# Altium schematic symbol library C-Capacitor.SCHLIB: 81 symbols
Pins are listed as number, name and electrical type; pins without a type are passive.

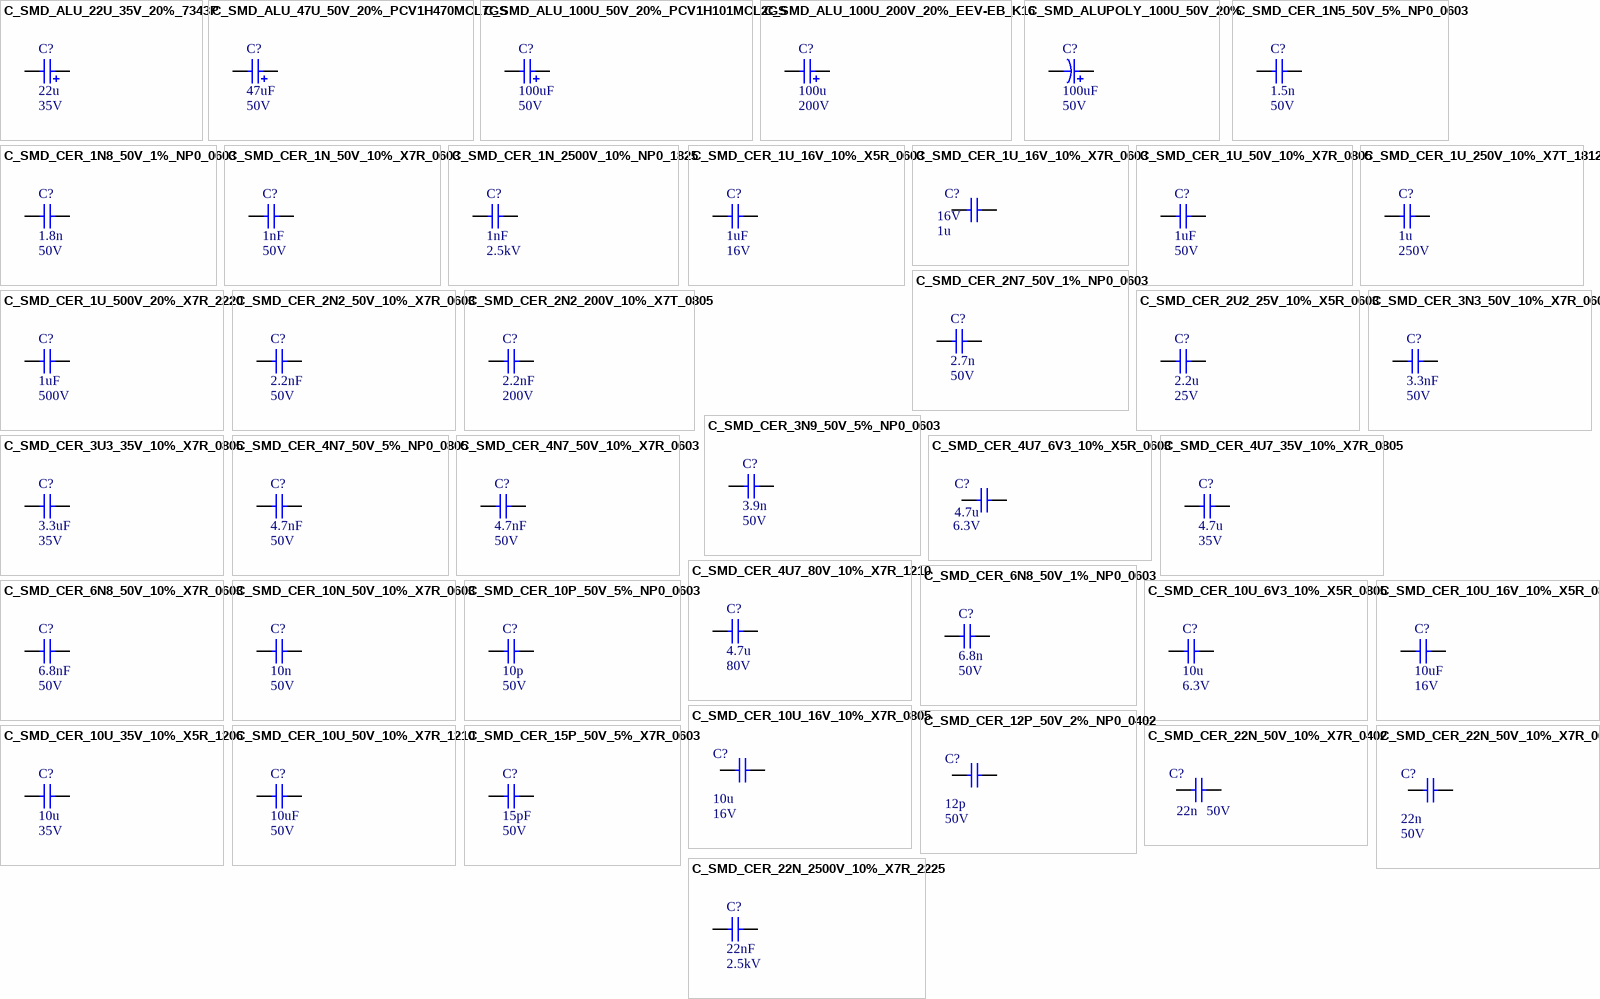
[diagram p0: symbols C_SMD_ALU_22U_35V_20%_7343P to C_SMD_CER_22N_2500V_10%_X7R_2225]

## C_SMD_ALU_22U_35V_20%_7343P
designator C?  value 22u  Value2: 35V  (hidden comment: C_SMD_ALU_22U_35V_20%_7343P)
SMD Aluminium capacitor; Supplier - E+H-flowtec SAP: 50093821
footprint SMD_7343P
pins: 1, 2

## C_SMD_ALU_47U_50V_20%_PCV1H470MCL7GS
designator C?  value 47uF  Value2: 50V  (hidden comment: C_SMD_ALU_47U_50V_20%_PCV1H470MCL7GS)
Supplier - Digikey: 493-4554-1-ND
footprint SMD_CAP_CV_8x10L
pins: 1, 2

## C_SMD_ALU_100U_50V_20%_PCV1H101MCL2GS
designator C?  value 100uF  Value2: 50V  (hidden comment: C_SMD_ALU_100U_50V_20%_PCV1H101MCL2GS)
Supplier - Digikey: 493-4558-1-ND
footprint SMD_CAP_CV_10x12.7L
pins: 1, 2

## C_SMD_ALU_100U_200V_20%_EEV-EB_K16
designator C?  value 100u  Value2: 200V  (hidden comment: C_SMD_ALU_100U_200V_20%_EEV-EB_K16)
SMD Aluminium capacitor; Supplier - Digikey: PCE3582CT-ND
footprint SMD_EEV-EB_K16 (Radial, Can - SMD - EEV-EB Series, Type V, Size code K16)
pins: 1, 2

## C_SMD_ALUPOLY_100U_50V_20%
designator C?  value 100uF  Value2: 50V  (hidden comment: C_SMD_ALUPOLY_100U_50V_20%)
SMD Aluminum Polymer capacitor; Supplier - Digikey: 493-4558-1-ND
footprint SMD_PCV1H101MCL2GS
pins: 1, 2

## C_SMD_CER_1N5_50V_5%_NP0_0603
designator C?  value 1.5n  Value2: 50V
SMD Capacitor; Supplier - E+H Flowtec AG: 71141054
footprint SMD_0603
pins: 1, 2

## C_SMD_CER_1N8_50V_1%_NP0_0603
designator C?  value 1.8n  Value2: 50V
SMD Capacitor; Supplier - Digikey: 490-12714-1-ND
footprint SMD_0603
pins: 1, 2

## C_SMD_CER_1N_50V_10%_X7R_0603
designator C?  value 1nF  Value2: 50V  (hidden comment: C_SMD_CER_1N_50V_10%_X7R_0603)
SMD Capacitor ceramic; Supplier - E+H-flowtec SAP: 50092739
footprint SMD_0603
pins: 1, 2

## C_SMD_CER_1N_2500V_10%_NP0_1825
designator C?  value 1nF  Value2: 2.5kV  (hidden comment: C_SMD_CER_1N_2500V_10%_NP0_1825)
High voltage SMD Capacitor; Suppler - Digikey: 478-4738-1-ND
footprint SMD_1825
pins: 1, 2

## C_SMD_CER_1U_16V_10%_X5R_0603
designator C?  value 1uF  Value2: 16V  (hidden comment: C_SMD_CER_1U_16V_10%_X5R_0603)
SMD Capacitor; Supplier - E+H-flowtec SAP: 50106956
footprint SMD_0603
pins: 1, 2

## C_SMD_CER_1U_16V_10%_X7R_0603
designator C?  value 1u  Value2: 16V  (hidden comment: *)
1µF ±10% 16V Ceramic Capacitor X7R 0603 (1608 Metric); Supplier - Digikey: 1276-1019-1-ND
footprint SMD_CAP_0603
pins: 1, 2

## C_SMD_CER_1U_50V_10%_X7R_0805
designator C?  value 1uF  Value2: 50V  (hidden comment: C_SMD_CER_1U_50V_10%_X7R_0805)
Supplier - Digikey: 587-2910-1-ND
footprint SMD_0805
pins: 1, 2

## C_SMD_CER_1U_250V_10%_X7T_1812
designator C?  value 1u  Value2: 250V  (hidden comment: C_SMD_CER_1U_250V_10%_X7T_1812)
SMD Capacitor; Supplier - Digikey: 445-7925-1-ND
footprint SMD_1812
pins: 1, 2

## C_SMD_CER_1U_500V_20%_X7R_2220
designator C?  value 1uF  Value2: 500V  (hidden comment: C_SMD_CER_1U_500V_20%_X7R_2220)
Supplier - Digikey: 399-9630-1-ND
footprint SMD_2220
pins: 1, 2

## C_SMD_CER_2N2_50V_10%_X7R_0603
designator C?  value 2.2nF  Value2: 50V  (hidden comment: C_SMD_CER_2N2_50V_10%_X7R_0603)
SMD Capacitor; Supplier - E+H Flowtec AG: 50092740
footprint SMD_0603
pins: 1, 2

## C_SMD_CER_2N2_200V_10%_X7T_0805
designator C?  value 2.2nF  Value2: 200V  (hidden comment: C_SMD_CER_2N2_200V_10%_X7T_0805)
SMD Capacitor
footprint SMD_0805
pins: 1, 2

## C_SMD_CER_2N7_50V_1%_NP0_0603
designator C?  value 2.7n  Value2: 50V
Supplier - Digikey: 490-11543-1-ND
footprint SMD_0603
pins: 1, 2

## C_SMD_CER_2U2_25V_10%_X5R_0603
designator C?  value 2.2u  Value2: 25V  (hidden comment: C_SMD_CER_2U2_25V_10%_X5R_0603)
SMD Capacitor; Supplier - Digikey: 587-2909-1-ND
footprint SMD_0603
pins: 1, 2

## C_SMD_CER_3N3_50V_10%_X7R_0603
designator C?  value 3.3nF  Value2: 50V  (hidden comment: C_SMD_CER_3N3_50V_10%_X7R_0603)
Thinfilm Ceramic Capacitor; Supplier - Digikey: 490-1503-1-ND
footprint SMD_0603
pins: 1, 2

## C_SMD_CER_3N9_50V_5%_NP0_0603
designator C?  value 3.9n  Value2: 50V
SMD Capacitor; Supplier - E+H Flowtec AG: 71254851
footprint SMD_0603
pins: 1, 2

## C_SMD_CER_3U3_35V_10%_X7R_0805
designator C?  value 3.3uF  Value2: 35V  (hidden comment: C_SMD_CER_3U3_35V_10%_X7R_0805)
Supplier - Digikey: 445-7553-1-ND
footprint SMD_0805
pins: 1, 2

## C_SMD_CER_4N7_50V_5%_NP0_0805
designator C?  value 4.7nF  Value2: 50V  (hidden comment: C_SMD_CER_4N7_50V_5%_NP0_0805)
SMD Capacitor ceramic; Supplier - E+H-flowtec SAP: 71137653
footprint SMD_0805
pins: 1, 2

## C_SMD_CER_4N7_50V_10%_X7R_0603
designator C?  value 4.7nF  Value2: 50V  (hidden comment: C_SMD_CER_4N7_50V_10%_X7R_0603)
SMD Capacitor ceramic; Supplier - E+H-flowtec SAP: 50092742; Supplier - Digikey: 478-1223-1-ND
footprint SMD_0603
pins: 1, 2

## C_SMD_CER_4U7_6V3_10%_X5R_0603
designator C?  value 4.7u  Value2: 6.3V  (hidden comment: *)
Supplier - Digikey: 1276-1045-1-ND
footprint SMD_CAP_0603
pins: 1, 2

## C_SMD_CER_4U7_35V_10%_X7R_0805
designator C?  value 4.7u  Value2: 35V  (hidden comment: C_SMD_CER_4U7_35V_10%_X7R_0805)
SMD Capacitor, Ceramic; Supplier - Digikey: 445-172479-1-ND
footprint SMD_0805
pins: 1, 2

## C_SMD_CER_4U7_80V_10%_X7R_1210
designator C?  value 4.7u  Value2: 80V  (hidden comment: C_SMD_CER_4U7_80V_10%_X7R_1210)
SMD Capacitor, Ceramic; Supplier - Digikey: 490-9972-1-ND
footprint SMD_1210
pins: 1, 2

## C_SMD_CER_6N8_50V_1%_NP0_0603
designator C?  value 6.8n  Value2: 50V
Supplier - Digikey: 490-10742-1-ND
footprint SMD_0603
pins: 1, 2

## C_SMD_CER_6N8_50V_10%_X7R_0603
designator C?  value 6.8nF  Value2: 50V  (hidden comment: C_SMD_CER_6N8_50V_10%_X7R_0603)
Supplier - Digikey: 1276-1185-1-ND
footprint SMD_0603
pins: 1, 2

## C_SMD_CER_10N_50V_10%_X7R_0603
designator C?  value 10n  Value2: 50V  (hidden comment: C_SMD_CER_10N_50V_10%_X7R_0603)
SMD Capacitor; Supplier - E+H-flowtec SAP: 50092743; Supplier - Digikey: 399-1091-1-ND
footprint SMD_0603
pins: 1, 2

## C_SMD_CER_10P_50V_5%_NP0_0603
designator C?  value 10p  Value2: 50V  (hidden comment: C_SMD_CER_10P_50V_5%_NP0_0603)
SMD Capacitor; Supplier - E+H-flowtec SAP: 50092727
footprint SMD_0603
pins: 1, 2

## C_SMD_CER_10U_6V3_10%_X5R_0805
designator C?  value 10u  Value2: 6.3V  (hidden comment: C_SMD_CER_10U_6V3_10%_X5R_0805)
SMD Capacitor; Supplier - E+H Flowtec AG: 50106953
footprint SMD_0805
pins: 1, 2

## C_SMD_CER_10U_16V_10%_X5R_0805
designator C?  value 10uF  Value2: 16V  (hidden comment: C_SMD_CER_10U_16V_10%_X5R_0805)
SMD Capacitor; Supplier - E+H-flowtec SAP: 71107344; Supplier - Digikey: 490-6473-1-ND
footprint SMD_0805
pins: 1, 2

## C_SMD_CER_10U_16V_10%_X7R_0805
designator C?  value 10u  Value2: 16V  (hidden comment: *)
10µF ±10% 16V Ceramic Capacitor X7R 0805 (2012 Metric); Supplier - Digikey: 1276-6472-1-ND
footprint SMD_CAP_0805 (Footprint not found)
pins: 1, 2

## C_SMD_CER_10U_35V_10%_X5R_1206
designator C?  value 10u  Value2: 35V  (hidden comment: C_SMD_CER_10U_35V_10%_X5R_1206)
SMD Capacitor, 10uF, 35V, 1206; Supplier - E+H-flowtec SAP: 71195846
footprint SMD_1206
pins: 1, 2

## C_SMD_CER_10U_50V_10%_X7R_1210
designator C?  value 10uF  Value2: 50V  (hidden comment: C_SMD_CER_10U_50V_10%_X7R_1210)
SMD Ceramic capacitor; Supplier - Digikey: 490-6544-1-ND
footprint SMD_1210
pins: 1, 2

## C_SMD_CER_12P_50V_2%_NP0_0402
designator C?  value 12p  Value2: 50V  (hidden comment: *)
12pF ±2% 50V Ceramic Capacitor C0G, NP0 0402 (1005 Metric); Supplier - Digikey: 490-6197-1-ND
footprint SMD_CAP_0402 (Chip Capacitor, 2-Leads, Body 1.00x0.50mm, IPC High Density)
pins: 1, 2

## C_SMD_CER_15P_50V_5%_X7R_0603
designator C?  value 15pF  Value2: 50V  (hidden comment: C_SMD_CER_15P_50V_5%_X7R_0603)
SMD Capacitor; Supplier - Digikey: LD035C150JAB2A-ND
footprint SMD_0603
pins: 1, 2

## C_SMD_CER_22N_50V_10%_X7R_0402
designator C?  value 22n  Value2: 50V  (hidden comment: *)
0.022µF ±10% 50V Ceramic Capacitor X7R 0402 (1005 Metric); Supplier - Digikey: 490-3884-1-ND
footprint SMD_CAP_0402 (Chip Capacitor, 2-Leads, Body 1.00x0.50mm, IPC High Density)
pins: 1, 2

## C_SMD_CER_22N_50V_10%_X7R_0603
designator C?  value 22n  Value2: 50V  (hidden comment: C_SMD_CER_22N_50V_10%_X7R_0603)
0.022µF ±10% 50V Ceramic Capacitor X7R 0603 (1608 Metric); Supplier - Digikey: 399-1280-1-ND
footprint SMD_0603
pins: 1, 2

## C_SMD_CER_22N_2500V_10%_X7R_2225
designator C?  value 22nF  Value2: 2.5kV  (hidden comment: C_SMD_CER_22N_2500V_10%_X7R_2225)
High voltage SMD Capacitor; Suppler - Digikey: 478-5917-1-ND
footprint SMD_2220
pins: 1, 2

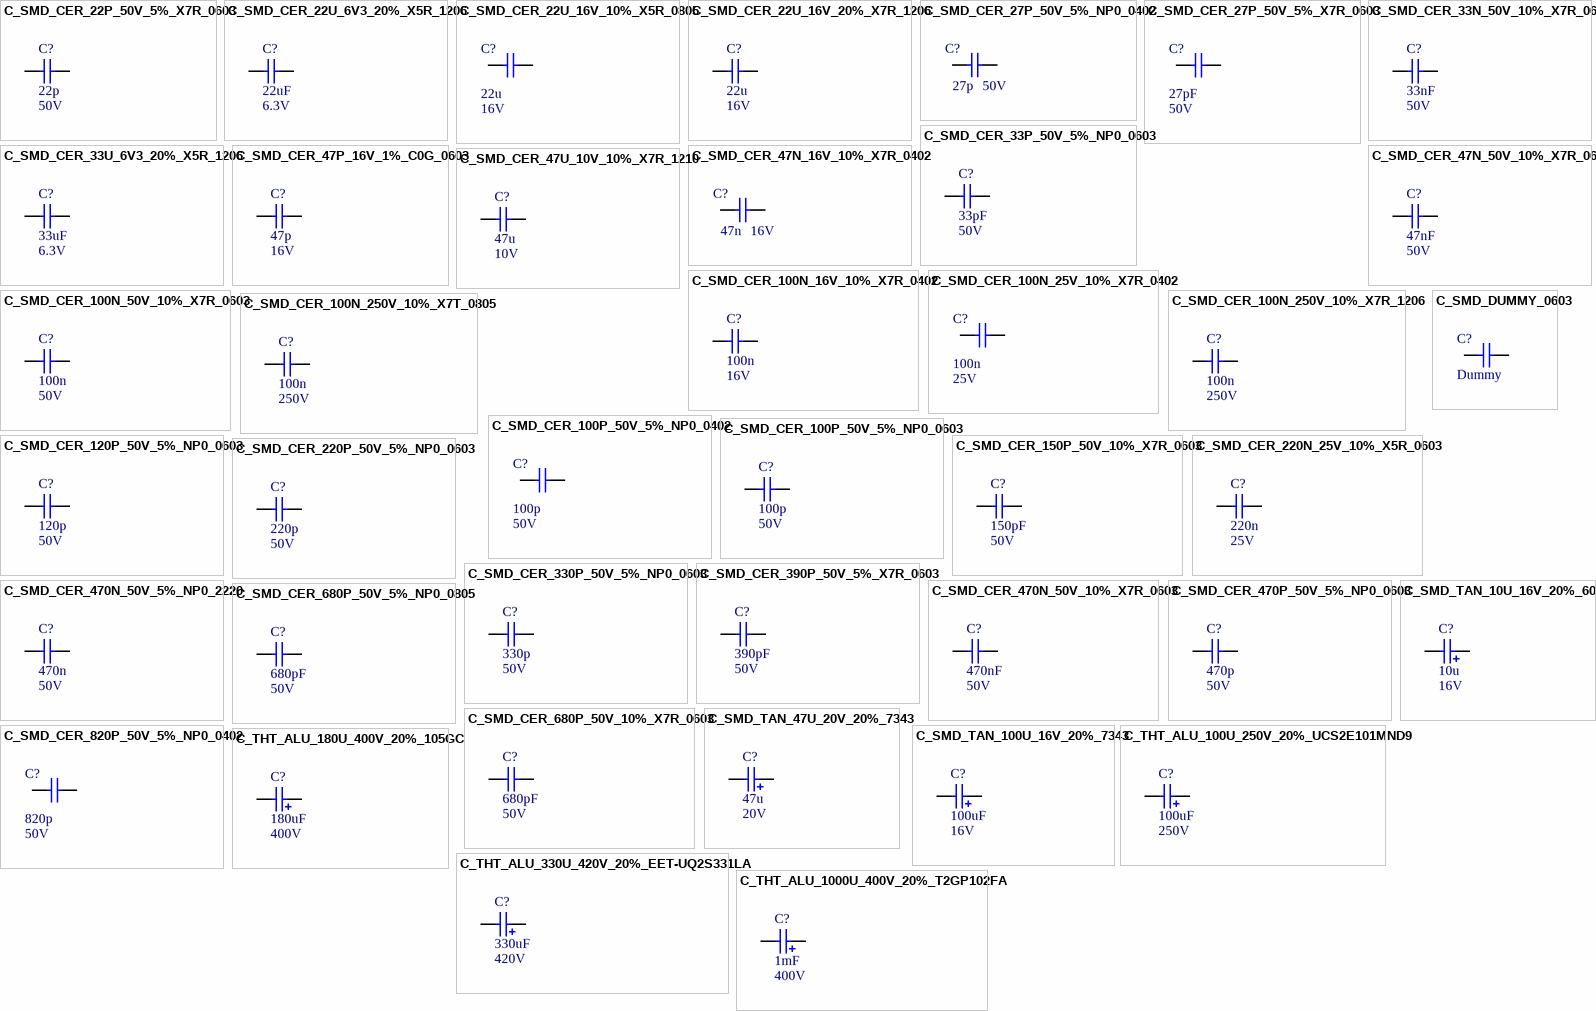
[diagram p1: symbols C_SMD_CER_22P_50V_5%_X7R_0603 to C_THT_ALU_1000U_400V_20%_T2GP102FA]

## C_SMD_CER_22P_50V_5%_X7R_0603
designator C?  value 22p  Value2: 50V  (hidden comment: C_SMD_CER_22P_50V_5%_X7R_0603)
SMD Capacitor; Supplier - Digikey: 478-6204-1-ND
footprint SMD_0603
pins: 1, 2

## C_SMD_CER_22U_6V3_20%_X5R_1206
designator C?  value 22uF  Value2: 6.3V  (hidden comment: C_SMD_CER_22U_6V3_20%_X5R_1206)
SMD Capacitor; Supplier - E+H-flowtec SAP: 71128390; Supplier - Digikey: 587-3398-1-ND
footprint SMD_1206
pins: 1, 2

## C_SMD_CER_22U_16V_10%_X5R_0805
designator C?  value 22u  Value2: 16V  (hidden comment: *)
22µF ±10% 16V Ceramic Capacitor X5R 0805 (2012 Metric); Supplier - Digikey: 1276-7092-1-ND
footprint SMD_CAP_0805 (Footprint not found)
pins: 1, 2

## C_SMD_CER_22U_16V_20%_X7R_1206
designator C?  value 22u  Value2: 16V  (hidden comment: C_SMD_CER_22U_16V_20%_X7R_1206)
SMD Capacitor; Supplier - Digikey: 445-3955-1-ND
footprint SMD_1206
pins: 1, 2

## C_SMD_CER_27P_50V_5%_NP0_0402
designator C?  value 27p  Value2: 50V  (hidden comment: *)
27pF ±5% 50V Ceramic Capacitor C0G, NP0 0402 (1005 Metric); Supplier - Digikey: 311-1019-1-ND
footprint SMD_CAP_0402 (Chip Capacitor, 2-Leads, Body 1.00x0.50mm, IPC High Density)
pins: 1, 2

## C_SMD_CER_27P_50V_5%_X7R_0603
designator C?  value 27pF  Value2: 50V  (hidden comment: C_SMD_CER_27P_50V_5%_X7R_0603)
CAP CER 27PF 50V X7R 0603; Supplier - Digikey: 478-11825-1-ND
footprint SMD_0603
pins: 1, 2

## C_SMD_CER_33N_50V_10%_X7R_0603
designator C?  value 33nF  Value2: 50V  (hidden comment: C_SMD_CER_33N_50V_10%_X7R_0603)
Supplier - Digikey: 1276-2042-1-ND
footprint SMD_0603
pins: 1, 2

## C_SMD_CER_33P_50V_5%_NP0_0603
designator C?, comment value 33pF  Value2: 50V  (hidden comment: C_SMD_CEC_SMD_CER_33P_50V_5%_NP0_0603)
SMD Capacitor
footprint SMD_0603
pins: 1, 2

## C_SMD_CER_33U_6V3_20%_X5R_1206
designator C?  value 33uF  Value2: 6.3V  (hidden comment: C_SMD_CER_33U_6V3_20%_X5R_1206)
Supplier - Digikey: 445-4060-1-ND
footprint SMD_1206
pins: 1, 2

## C_SMD_CER_47N_16V_10%_X7R_0402
designator C?  value 47n  Value2: 16V  (hidden comment: *)
0.047µF ±10% 16V Ceramic Capacitor X7R 0402 (1005 Metric); Supplier - Digikey: 311-1362-1-ND
footprint SMD_CAP_0402 (Chip Capacitor, 2-Leads, Body 1.00x0.50mm, IPC High Density)
pins: 1, 2

## C_SMD_CER_47N_50V_10%_X7R_0603
designator C?  value 47nF  Value2: 50V  (hidden comment: C_SMD_CER_47N_50V_10%_X7R_0603)
SMD capacitor; Supplier - E+H-flowtec SAP: 50092746; Supllier - Digikey: 1276-1063-1-ND
footprint SMD_0603
pins: 1, 2

## C_SMD_CER_47P_16V_1%_C0G_0603
designator C?  value 47p  Value2: 16V  (hidden comment: C_SMD_CER_47P_16V_1%_C0G_0603)
SMD Capacitor; Supplier - E+H-flowtec SAP: 71104083
footprint SMD_0603
pins: 1, 2

## C_SMD_CER_47U_10V_10%_X7R_1210
designator C?  value 47u  Value2: 10V  (hidden comment: C_SMD_CER_47U_10V_10%_X7R_1210)
SMD Capacitor; Type: GRM32ER71A476KE15L; Supplier - Digikey: 490-5312-1-ND
footprint SMD_1210
pins: 1, 2

## C_SMD_CER_100N_16V_10%_X7R_0402
designator C?  value 100n  Value2: 16V  (hidden comment: C_SMD_CER_100N_16V_10%_X7R_0402)
SMD Capacitor; Supplier - E+H-flowtec SAP: 71022123
footprint SMD_0402
pins: 1, 2

## C_SMD_CER_100N_25V_10%_X7R_0402
designator C?  value 100n  Value2: 25V  (hidden comment: *)
0.1µF ±10% 25V Ceramic Capacitor X7R 0402 (1005 Metric); Supplier - Digikey: 490-14603-1-ND
footprint SMD_CAP_0402 (Chip Capacitor, 2-Leads, Body 1.00x0.50mm, IPC High Density)
pins: 1, 2

## C_SMD_CER_100N_50V_10%_X7R_0603
designator C?  value 100n  Value2: 50V  (hidden comment: C_SMD_CER_100N_50V_10%_X7R_0603)
SMD Capacitor; Supplier - E+H-flowtec SAP: 50092748; Supplier - Digikey: 1276-1936-1-ND
footprint SMD_0603
pins: 1, 2

## C_SMD_CER_100N_250V_10%_X7R_1206
designator C?  value 100n  Value2: 250V  (hidden comment: C_SMD_CER_100N_250V_10%_X7R_1206)
SMD Capacitor; Supplier - E+H-flowtec SAP: 71140682
footprint SMD_1206
pins: 1, 2

## C_SMD_CER_100N_250V_10%_X7T_0805
designator C?  value 100n  Value2: 250V  (hidden comment: C_SMD_CER_100N_250V_10%_X7T_0805)
SMD Capacitor; Supplier - Digikey: 445-6976-1-ND
footprint SMD_0805
pins: 1, 2

## C_SMD_CER_100P_50V_5%_NP0_0402
designator C?  value 100p  Value2: 50V  (hidden comment: *)
Supplier - Digikey: 311-1024-1-ND
footprint SMD_CAP_0402 (Chip Capacitor, 2-Leads, Body 1.00x0.50mm, IPC High Density)
pins: 1, 2

## C_SMD_CER_100P_50V_5%_NP0_0603
designator C?  value 100p  Value2: 50V  (hidden comment: C_SMD_CER_100P_50V_5%_NP0_0603)
SMD Capacitor; Supplier - E+H-flowtec SAP: 50092733
footprint SMD_0603
pins: 1, 2

## C_SMD_CER_120P_50V_5%_NP0_0603
designator C?  value 120p  Value2: 50V
SMD Capacitor; Supplier - E+H Flowtec AG: 71254862
footprint SMD_0603
pins: 1, 2

## C_SMD_CER_150P_50V_10%_X7R_0603
designator C?  value 150pF  Value2: 50V  (hidden comment: C_SMD_CER_150P_50V_10%_X7R_0603)
Supplier - Digikey: 399-11138-1-ND
footprint SMD_0603
pins: 1, 2

## C_SMD_CER_220N_25V_10%_X5R_0603
designator C?  value 220n  Value2: 25V  (hidden comment: C_SMD_CER_220N_25V_10%_X5R_0603)
SMD Capacitor; Supplier - Digikey: 478-1245-1-ND
footprint SMD_0603
pins: 1, 2

## C_SMD_CER_220P_50V_5%_NP0_0603
designator C?  value 220p  Value2: 50V  (hidden comment: C_SMD_CER_220P_50V_5%_NP0_0603)
SMD Capacitor
footprint SMD_0603
pins: 1, 2

## C_SMD_CER_330P_50V_5%_NP0_0603
designator C?  value 330p  Value2: 50V  (hidden comment: C_SMD_CER_330P_50V_5%_NP0_0603)
SMD Ceramic Capacitor; Supplier - E+H-flowtec SAP: 50092736
footprint SMD_0603
pins: 1, 2

## C_SMD_CER_390P_50V_5%_X7R_0603
designator C?  value 390pF  Value2: 50V  (hidden comment: C_SMD_CER_390P_50V_5%_X7R_0603)
Supplier - Digikey: 399-9074-1-ND
footprint SMD_0603
pins: 1, 2

## C_SMD_CER_470N_50V_5%_NP0_2220
designator C?  value 470n  Value2: 50V  (hidden comment: C_SMD_CER_470N_50V_5%_NP0_2220)
SMD Capacitor; Supplier - Digikey: 399-5385-1-ND
footprint SMD_2220
pins: 1, 2

## C_SMD_CER_470N_50V_10%_X7R_0603
designator C?  value 470nF  Value2: 50V  (hidden comment: C_SMD_CER_470N_50V_10%_X7R_0603)
Supplier - Digikey: 587-3170-1-ND
footprint SMD_0603
pins: 1, 2

## C_SMD_CER_470P_50V_5%_NP0_0603
designator C?  value 470p  Value2: 50V  (hidden comment: C_SMD_CER_470P_50V_5%_NP0_0603)
SMD Capacitor Ceramic; Supplier - E+H-flowtec SAP: 50092737
footprint SMD_0603
pins: 1, 2

## C_SMD_CER_680P_50V_5%_NP0_0805
designator C?  value 680pF  Value2: 50V  (hidden comment: C_SMD_CER_680P_50V_5%_NP0_0805)
SMD Capacitor ceramic; Supplier - E+H-flowtec SAP: 50064150
footprint SMD_0805
pins: 1, 2

## C_SMD_CER_680P_50V_10%_X7R_0603
designator C?  value 680pF  Value2: 50V  (hidden comment: C_SMD_CER_680P_50V_10%_X7R_0603)
SMD Capacitor Ceramic; Supplier - E+H-flowtec SAP: 50092738
footprint SMD_0603
pins: 1, 2

## C_SMD_CER_820P_50V_5%_NP0_0402
designator C?  value 820p  Value2: 50V  (hidden comment: *)
820pF ±5% 50V Ceramic Capacitor C0G, NP0 0402 (1005 Metric); Supplier - Digikey: 490-11407-1-ND
footprint SMD_CAP_0402 (Chip Capacitor, 2-Leads, Body 1.00x0.50mm, IPC High Density)
pins: 1, 2

## C_SMD_DUMMY_0603
designator C?  value Dummy  (hidden comment: *)
Dummy 0603
footprint SMD_CAP_0603
pins: 1, 2

## C_SMD_TAN_10U_16V_20%_6032
designator C?  value 10u  Value2: 16V  (hidden comment: C_SMD_TAN_10U_16V_20%_6032)
SMD Capacitor; Supplier - E+H-flowtec SAP: 50019784
footprint SMD_6032P
pins: 1, 2

## C_SMD_TAN_47U_20V_20%_7343
designator C?  value 47u  Value2: 20V  (hidden comment: C_SMD_TAN_47U_20V_20%_7343)
SMD Capacitor; Supplier - E+H-flowtec SAP: 50093819
footprint SMD_7343P
pins: 1, 2

## C_SMD_TAN_100U_16V_20%_7343
designator C?  value 100uF  Value2: 16V  (hidden comment: C_SMD_TAN_100U_16V_20%_7343)
SMD Tantal Capacitor; Supplier - E+H-flowtec SAP: 50103975
footprint SMD_7343P
pins: 1, 2

## C_THT_ALU_100U_250V_20%_UCS2E101MND9
designator C?  value 100uF  Value2: 250V  (hidden comment: C_THT_ALU_100U_250V_20%_UCS2E101MND9)
THT Aluminum 100uF 250V capacitor; Type: UCS2E101MND9; Supplier - Digikey: 493-4432-ND
footprint THT_UCS2E101MND9 (THT Aluminum 10uF 250V capacitor)
pins: 1, 2

## C_THT_ALU_180U_400V_20%_105GC
designator C?  value 180uF  Value2: 400V  (hidden comment: C_THT_ALU_180U_400V_20%_105GC)
Supplier - E+H-flowtec SAP: 71025865
footprint THT_105GC
pins: 1, 2

## C_THT_ALU_330U_420V_20%_EET-UQ2S331LA
designator C?  value 330uF  Value2: 420V  (hidden comment: C_THT_ALU_330U_420V_20%_EET-UQ2S331LA)
Supplier - Digikey: P13899-ND
footprint THT_EET-UQ2S331LA
pins: 1, 2

## C_THT_ALU_1000U_400V_20%_T2GP102FA
designator C?  value 1mF  Value2: 400V  (hidden comment: C_THT_ALU_1000U_400V_20%_T2GP102FA)
THT Aluminum capacitor; Type: ECE-T2GP102FA; Supplier - Digikey: P10064-ND
footprint THT_CAP_T2GP102FA
pins: 1, 2, 3, 4

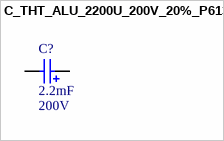
[diagram p2: symbol C_THT_ALU_2200U_200V_20%_P6135]

## C_THT_ALU_2200U_200V_20%_P6135
designator C?  value 2.2mF  Value2: 200V  (hidden comment: C_THT_ALU_2200U_200V_20%_P6135)
THT Aluminum Capacitor 200V 2200uF; Type: P6135-ND; Type: P6135
footprint THT_P6135
pins: 1, 2